# EAGLE library part AT86RF232 (library Atmel-AT86RF232)
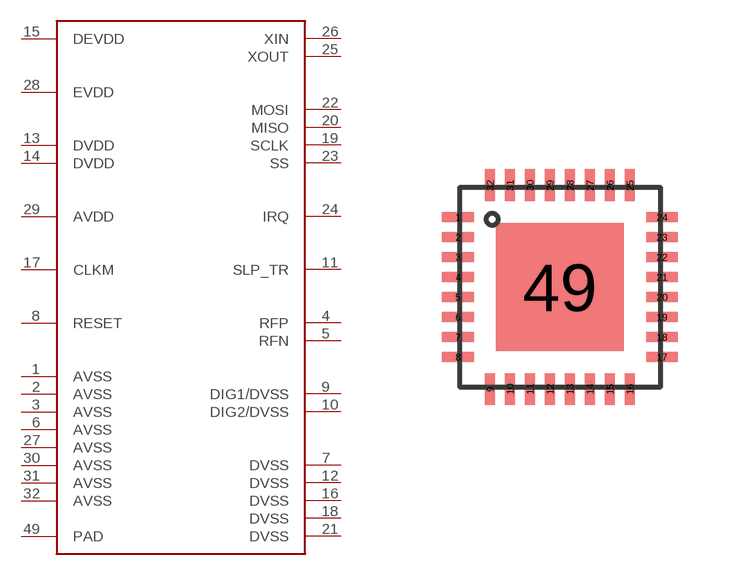
[diagram p0: symbol with the pads of 32QFN; footprint 32QFN]

Designator prefix -

## AT86RF232  [32QFN]
1  AVSS
2  AVSS
3  AVSS
4  RFP
5  RFN
6  AVSS
7  DVSS
8  RESET
9  DIG1/DVSS
10  DIG2/DVSS
11  SLP_TR
12  DVSS
13  DVDD
14  DVDD
15  DEVDD
16  DVSS
17  CLKM
18  DVSS
19  SCLK
20  MISO
21  DVSS
22  MOSI
23  SS
24  IRQ
25  XOUT
26  XIN
27  AVSS
28  EVDD
29  AVDD
30  AVSS
31  AVSS
32  AVSS
49  PAD

## Footprint 32QFN (pad centres in mm)
smd 0.8 x 0.25: 1 -2.55,1.75; 2 -2.55,1.25; 3 -2.55,0.75; 4 -2.55,0.25; 5 -2.55,-0.25; 6 -2.55,-0.75; 7 -2.55,-1.25; 8 -2.55,-1.75; 17 2.55,-1.75; 18 2.55,-1.25; 19 2.55,-0.75; 20 2.55,-0.25; 21 2.55,0.25; 22 2.55,0.75; 23 2.55,1.25; 24 2.55,1.75
smd 0.25 x 0.8: 9 -1.75,-2.55; 10 -1.25,-2.55; 11 -0.75,-2.55; 12 -0.25,-2.55; 13 0.25,-2.55; 14 0.75,-2.55; 15 1.25,-2.55; 16 1.75,-2.55; 25 1.75,2.55; 26 1.25,2.55; 27 0.75,2.55; 28 0.25,2.55; 29 -0.25,2.55; 30 -0.75,2.55; 31 -1.25,2.55; 32 -1.75,2.55
smd 3.2 x 3.2: 49 0,0